# EAGLE library part TC124 (library X893)
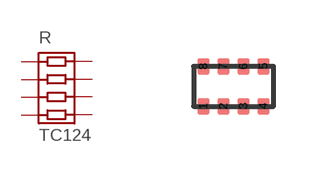
[diagram p228: symbol with the pads of TC124; footprint TC124]

Designator prefix R

## TC124  [TC124]
1  1
2  2
3  3
4  4
5  5
6  6
7  7
8  8

## Footprint TC124 (pad centres in mm)
smd 0.3 x 0.4: 1 -0.75,-0.5; 2 -0.25,-0.5; 3 0.25,-0.5; 4 0.75,-0.5; 5 0.75,0.5; 6 0.25,0.5; 7 -0.25,0.5; 8 -0.75,0.5